# Altium footprint library D SMD.PcbLib: 29 footprints (part 2 of 2)
Each footprint in its own frame and in the unit in brackets; x right, y up, seen from the top. Pads: shape width x height; smd on the part's side, far side on the other; paste and mask are expansions set on the pad; w line width, h text height; cw(c..) or ccw(c..) is an arc to the next point about the centre after c.
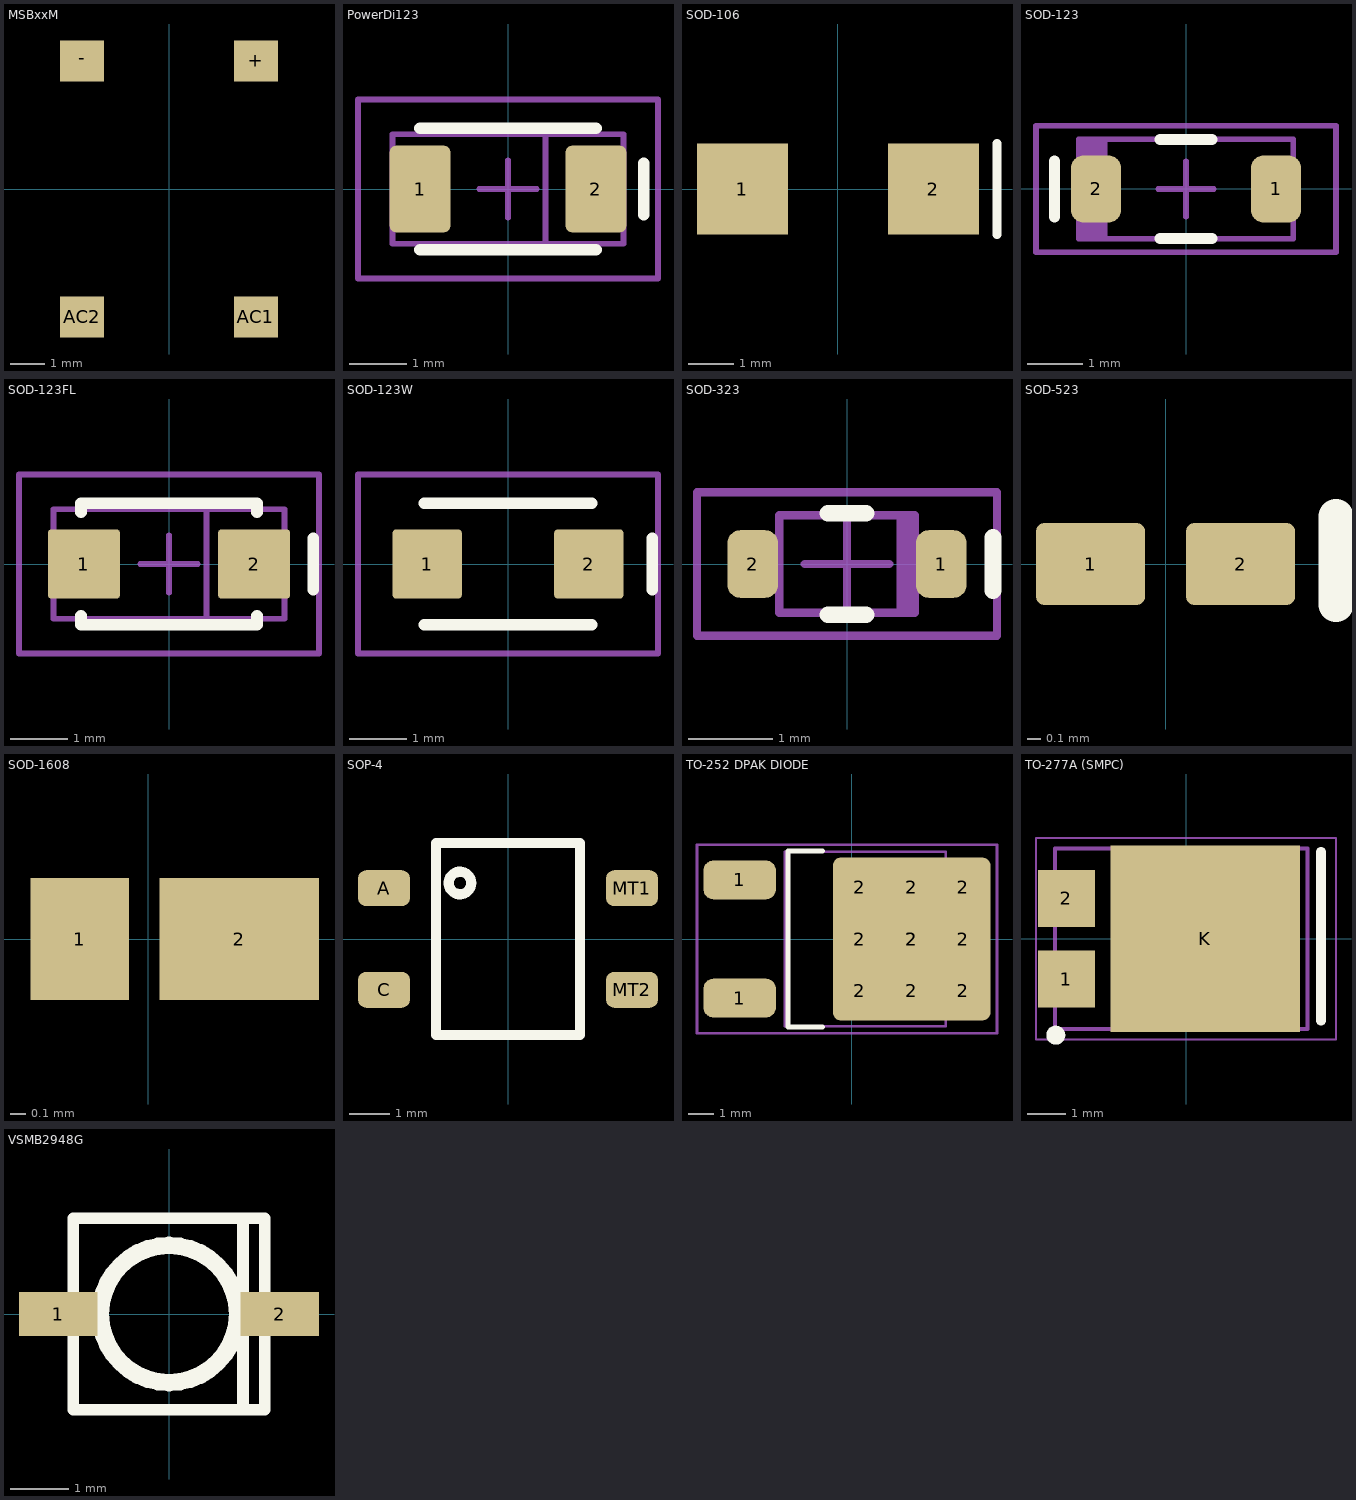
[diagram p1: the footprints below, top view; thin cyan lines are the x and y axes]

## MSBxxM [mm] "1000V, 2.5A, 1.1Vf, 5uA Irev bridge rectifier, MSB25MH, MSB30M"
pads (4):
  rect 1.3x1.2 smd: +(2.55,3.75) -(-2.55,3.75) AC1(2.55,-3.75) AC2(-2.55,-3.75)
3D body: height 1.3, standoff 0, extent -3.3,-3.65 3.3,3.65

## PowerDi123 [mm]
height 1
pads (2):
  rrect20% 1.05x1.5 smd: 1(-1.525,0) 2(1.525,0)
Top Overlay:
  lines w0.2: -1.525,-1.05 -1.45,-1.05 1.45,-1.05 1.525,-1.05 ; -1.525,1.05 -1.45,1.05 1.45,1.05 1.525,1.05 ; 2.35,-0.45 2.35,0.45
Mechanical 13:
  lines w0.1: 0.65,-0.95 0.65,0.95 ; -2,-0.95 -2,0.95 2,0.95 2,-0.95 -2,-0.95
Mechanical 15:
  lines w0.1: -0.5,0 0.5,0 ; 0,-0.5 0,0.5 ; -2.6,-1.55 2.6,-1.55 2.6,1.55 -2.6,1.55 -2.6,-1.55
3D body: height 1.1, standoff -0.01, extent -2,-0.95 2,0.95

## SOD-106 [mm] "4.5x2.6mm [177x102mil]"
height 2
pads (2):
  rect 2x2 smd: 1(-2.1,0) 2(2.1,0)
Top Overlay:
  lines w0.2: 3.5,-1 3.5,1
3D body: height 2, standoff 0, extent -2.5,-1.286 2.5,1.314

## SOD-123 [mm] "Molded Diode, 2-Leads, Body 3,8x1,6mm, IPC Medium Density"
height 1.117
pads (2):
  rrect50% 0.91x1.22 smd: 1(1.635,0) 2(-1.635,0)
Top Overlay:
  lines w0.2: -2.39,-0.51 -2.39,0.51 ; -0.475,-0.9 0.475,-0.9 ; -0.475,0.9 0.475,0.9
Mechanical 13:
  rectangle: -1.95,-0.9 -1.425,0.9
  lines w0.1: -1.95,-0.9 1.95,-0.9 1.95,0.9 -1.95,0.9 -1.95,-0.9
Mechanical 15:
  lines w0.1: -0.5,0 0.5,0 ; 0,-0.5 0,0.5 ; -2.725,-1.15 2.725,-1.15 2.725,1.15 -2.725,1.15 -2.725,-1.15
3D body: height 1.43, standoff -0.02, extent -1.925,-0.85 1.925,0.85

## SOD-123FL [mm] "SOD-123FL by ON Semiconductor"
height 1
pads (2):
  rrect10% 1.25x1.2 smd: 1(-1.475,0) 2(1.475,0)
Top Overlay:
  lines w0.2: -1.525,-0.9 -1.525,-1.05 -1.45,-1.05 1.45,-1.05 1.525,-1.05 1.525,-0.9 ; -1.525,0.9 -1.525,1.05 -1.45,1.05 1.45,1.05 1.525,1.05 1.525,0.9 ; 2.5,-0.45 2.5,0.45
Mechanical 13:
  lines w0.1: 0.65,-0.95 0.65,0.95 ; -2,-0.95 2,-0.95 2,0.95 -2,0.95 -2,-0.95
Mechanical 15:
  lines w0.1: -0.5,0 0.5,0 ; 0,-0.5 0,0.5 ; -2.6,-1.55 -2.6,1.55 2.6,1.55 2.6,-1.55 -2.6,-1.55
3D body: height 1.1, standoff -0.01, extent -2,-0.95 2,0.95

## SOD-123W [mm] "SOD-123W"
height 1.1
pads (2):
  rrect10% 1.2x1.2 smd: 1(-1.4,0) 2(1.4,0)
Top Overlay:
  lines w0.2: -1.45,-1.05 1.45,-1.05 ; -1.45,1.05 1.45,1.05 ; 2.5,-0.45 2.5,0.45
Mechanical 15:
  lines w0.1: -2.6,-1.55 2.6,-1.55 2.6,1.55 -2.6,1.55 -2.6,-1.55
3D body: height 1.1, standoff -0.01, extent -2,-0.95 2,0.95

## SOD-323 [mm] "Molded Diode, 2-Leads, Body 1,7x1,3mm,"
height 1.1
pads (2):
  rrect50% 0.6x0.8 smd: 1(1.115,0) 2(-1.115,0)
Top Overlay:
  lines w0.2: -0.225,-0.6 0.225,-0.6 ; -0.225,0.6 0.225,0.6 ; 1.73,-0.315 1.73,0.315
Mechanical 13:
  rectangle: 0.585,-0.575 0.8,0.575
  lines w0.1: -0.8,-0.575 -0.8,0.575 0.8,0.575 0.8,-0.575 -0.8,-0.575
Mechanical 15:
  lines w0.1: -0.5,0 0.5,0 ; 0,-0.5 0,0.5 ; -1.775,-0.85 -1.775,0.85 1.775,0.85 1.775,-0.85 -1.775,-0.85
3D body: height 1.1, standoff 0, extent -1.3,-0.675 1.3,0.675

## SOD-523 [mm] "SOD-523"
height 0.8
pads (2):
  rrect20% 0.8x0.6 smd: 1(-0.55,0) 2(0.55,0)
Top Overlay:
  lines w0.254: 1.25,-0.3 1.25,0.35
3D body: height 0.7, standoff 0, extent -0.85,-0.45 0.85,0.45

## SOD-1608 [mm]
height 0.4
pads (2):
  rect 0.65x0.8 smd mask+0.05: 1(-0.45,0)
  rect 1.05x0.8 smd mask+0.05: 2(0.6,0)
3D body: height 0.4, standoff 0, extent -0.825,-0.45 1.175,0.45

## SOP-4 [mm] "SOP-4"
height 2.39
pads (4):
  rrect45% 1.3x0.9 smd: A(-3.1,1.27) C(-3.1,-1.27) MT1(3.1,1.27) MT2(3.1,-1.27)
Top Overlay:
  circle w0.254: c-1.2,1.4 r0.283
  lines w0.254: -1.8,-2.4 1.8,-2.4 1.8,2.4 -1.8,2.4 -1.8,-2.4
3D body: height 2.4, standoff 0, extent -3.6,-2.1 3.6,2.1

## TO-252 DPAK DIODE [mm] "TO-252 DPAK, pins renumbered for diode"
height 2.39
pads (12):
  rrect50% 2.8x1.5 smd: 1(-4.325,-2.286) 1(-4.325,2.286)
  rrect50% 1.7x1.7 smd: 2(0.325,-2) 2(0.325,0) 2(0.325,2) 2(2.325,-2) 2(2.325,0) 2(2.325,2) 2(4.325,-2) 2(4.325,0) 2(4.325,2)
  rrect10% 6.1x6.3 smd paste-6: 2(2.325,0)
Top Overlay:
  lines w0.2: -1.125,-3.4 -2.45,-3.4 -2.45,3.4 -1.125,3.4
Mechanical 13:
  lines w0.1: -2.575,-3.375 3.645,-3.375 3.645,3.375 -2.575,3.375 -2.575,-3.375
Mechanical 15:
  lines w0.1: -0.675,0 0.325,0 ; -0.175,-0.5 -0.175,0.5 ; -5.975,-3.65 5.625,-3.65 5.625,3.65 -5.975,3.65 -5.975,-3.65
3D body: height 2.3, standoff -0.01, extent -4.725,-3.29 4.975,3.29

## TO-277A (SMPC) [mm] "TO-277A (SMPC)"
height 1.2
pads (3):
  rect 1.5x1.5 smd: 1(-3.15,-1.065) 2(-3.15,1.065)
  rect 5x4.9 smd: K(0.508,0)
Top Overlay:
  circle w0.25: c-3.429,-2.54 r0.125
  lines w0.254: 3.556,-2.159 3.556,2.286
Mechanical 13:
  lines w0.1: -3.45,-2.375 3.2,-2.375 3.2,2.375 -3.45,2.375 -3.45,-2.375
Mechanical 15:
  lines w0.05: -3.95,-2.65 3.95,-2.65 3.95,2.65 -3.95,2.65 -3.95,-2.65
  lines w0.1: -0.5,0 0.5,0 ; 0,-0.5 0,0.5
3D body: height 1.2, standoff 0, extent -3.729,-2.375 2.921,2.375

## VSMB2948G [mm] "Infrared Emitter"
pads (2):
  rect 1.35x0.75 smd: 1(-1.91,0) 2(1.91,0)
Top Overlay:
  circle w0.3: c0,0 r1.182
  lines w0.2: 1.275,-1.625 1.275,1.65 ; -1.65,-1.65 0,-1.65 1.65,-1.65 1.65,0 1.65,1.65 0,1.65 -1.65,1.65 -1.65,0 -1.65,-1.65
3D body: height 2.55, standoff 0, extent -1.649,-1.649 1.649,1.649